# Altium footprint library Components.PcbLib: 10 footprints
Each footprint in its own frame and in the unit in brackets; x right, y up, seen from the top. Pads: shape width x height; smd on the part's side, far side on the other; paste and mask are expansions set on the pad; w line width, h text height; cw(c..) or ccw(c..) is an arc to the next point about the centre after c.
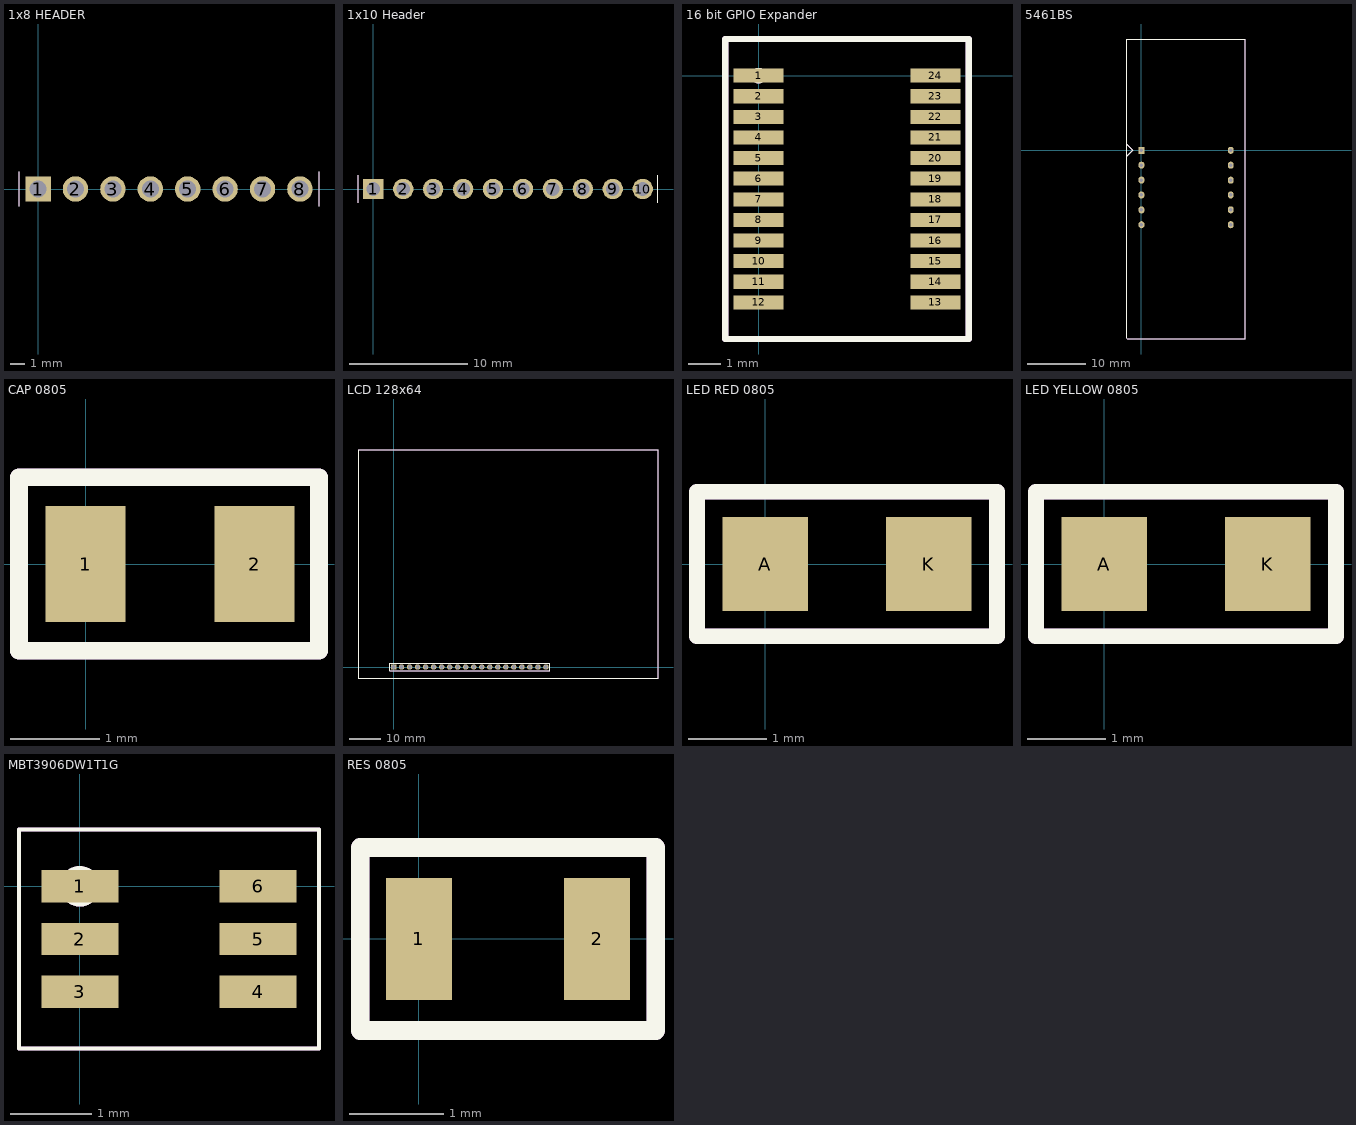
[diagram p0: the footprints below, top view; thin cyan lines are the x and y axes]

## 1x8 HEADER [mm]
pads (8):
  rect 1.725x1.725 hole 1.15: 1(0,0)
  round 1.725 hole 1.15: 2(2.54,0) 3(5.08,0) 4(7.62,0) 5(10.16,0) 6(12.7,0) 7(15.24,0) 8(17.78,0)
Top Overlay:
  circle w0.54: c0,0 r0.25
  lines w0.05: -1.295,-1.168 -1.295,1.168 ; 19.075,-1.168 19.075,-0.398 19.075,0.847 19.075,1.168
Mechanical 29 (Mech29):
  circle w0.54: c0,0 r0.25
  lines w0.05: -1.295,-1.168 -1.295,1.168 ; 19.075,-1.168 19.075,-0.398 19.075,0.847 19.075,1.168
  text "'.Designator'" at -1.4,-2.3 h1.2
3D body "10129378-908001BLF.stp": height 3.3, standoff -8.58, extent -1.27,-1.205 19.05,1.205

## 1x10 Header [mm]
pads (10):
  rect 1.725x1.725 hole 1.15: 1(0,0)
  round 1.725 hole 1.15: 2(2.54,0) 3(5.08,0) 4(7.62,0) 5(10.16,0) 6(12.7,0) 7(15.24,0) 8(17.78,0) 9(20.32,0) 10(22.86,0)
Top Overlay:
  circle w0.54: c0,0 r0.25
  region: 0,0
  lines w0.05: -1.295,-1.168 -1.295,1.168 ; 24.155,-1.168 24.155,1.168
Mechanical 29 (Mech29):
  circle w0.54: c0,0 r0.25
  region: 0,0
  lines w0.05: -1.295,-1.168 -1.295,1.168 ; 24.155,-1.168 24.155,1.168
  text "'.Designator'" at -1.52,-2.524 h1.2
3D body "10129378-910001BLF.stp": height 3.3, standoff -8.58, extent -1.27,-1.205 24.13,1.205

## 16 bit GPIO Expander [mm] "SOP64P602X175-24N"
pads (24):
  rect 1.55x0.435 smd: 1(0,0) 2(0,-0.634) 3(0,-1.27) 4(0,-1.904) 5(0,-2.54) 6(0,-3.174) 7(0,-3.81) 8(0,-4.444) 9(0,-5.08) 10(0,-5.714) 11(0,-6.35) 12(0,-6.984) 13(5.45,-6.984) 14(5.45,-6.35) 15(5.45,-5.714) 16(5.45,-5.08) 17(5.45,-4.444) 18(5.45,-3.81) 19(5.45,-3.174) 20(5.45,-2.54) 21(5.45,-1.904) 22(5.45,-1.27) 23(5.45,-0.634) 24(5.45,0)
Top Overlay:
  circle w0.254: c0,0 r0.112
  lines w0.2: -1.025,-8.112 -1.025,1.128 6.475,1.128 6.475,-8.112 -1.025,-8.112
Mechanical 29 (Mech29):
  circle w0.254: c0,0 r0.112
  lines w0.2: -1.025,-8.112 -1.025,1.128 6.475,1.128 6.475,-8.112 -1.025,-8.112
  text "'.Designator'" at 2.225,-3.706 h1.52
3D body "MAX7313AEG+.stp": height 1.75, standoff 0, extent -0.285,-7.817 5.735,0.833

## 5461BS [mm] "7 Segments Display"
pads (12):
  rect 1x1.2 hole 0.6: 1(0,0)
  oval 1x1.2 hole 0.6: 2(0,-2.54) 3(0,-5.08) 4(0,-7.62) 5(0,-10.16) 6(0,-12.7) 7(15.24,-12.7) 8(15.24,-10.16) 9(15.24,-7.62) 10(15.24,-5.08) 11(15.24,-2.54) 12(15.24,0)
Top Overlay:
  lines w0.2: -2.5,-32.1 -2.5,19 17.7,19 17.7,-32.2 -2.4,-32.2 ; -2.5,-1 -1.5,0 -2.5,1
Mechanical 29 (Mech29):
  lines w0.2: -2.5,-32.1 -2.5,19 17.7,19 17.7,-32.2 -2.4,-32.2 ; -2.5,-1 -1.5,0 -2.5,1
  text "'.Designator'" at 18.4,18.8 h1.2
3D body "5461BS.step": height 8.01, standoff -6.3, extent -1.9,-31.75 17.1,18.55

## CAP 0805 [mm]
pads (2):
  rect 0.9x1.3 smd: 1(0,0) 2(1.9,0)
Top Overlay:
  lines w0.2: -0.75,-0.975 2.625,-0.975 2.625,0.975 -0.75,0.975 -0.75,-0.975
Mechanical 29 (Mech29):
  lines w0.2: -0.75,-0.975 -0.75,0.975 2.625,0.975 2.625,-0.975 -0.75,-0.975
  text "'.Designator'" at 0.325,-0.375 h1.2
3D body "CAP-0805.STEP": height 1.01, standoff 0.01, extent -0.05,-0.625 1.95,0.625

## LCD 128x64 [mm] "GLCD"
pads (20):
  rect 1.725x1.725 hole 1.15: 1(0,0)
  round 1.725 hole 1.15: 2(2.54,0) 3(5.08,0) 4(7.62,0) 5(10.16,0) 6(12.7,0) 7(15.24,0) 8(17.78,0) 9(20.32,0) 10(22.86,0) 11(25.4,0) 12(27.94,0) 13(30.48,0) 14(33.02,0) 15(35.56,0) 16(38.1,0) 17(40.64,0) 18(43.18,0) 19(45.72,0) 20(48.26,0)
Top Overlay:
  circle w0.254: c0,0 r0.125
  lines w0.2: -1.275,1.205 49.53,1.205 49.53,-1.205 -1.27,-1.205 -1.27,1.205 ; -11.25,-3.5 83.75,-3.5 83.75,68.75 -11.25,68.75 -11.25,-3.5
Mechanical 29 (Mech29):
  circle w0.254: c0,0 r0.125
  lines w0.1: -1.27,-1.205 49.53,-1.205 49.53,1.205 -1.27,1.205 -1.27,-1.205
  lines w0.2: -11.25,-3.5 -11.25,68.75 83.75,68.75 83.75,-3.5 -11.25,-3.5
  text "GLCD" at -11.1,69.4 h1.2
3D body "Waveshare_LCD12864-ST.step": height 13.42, standoff -6.67, extent -10.254,-2.362 82.746,67.638

## LED RED 0805 [mm]
pads (2):
  rect 1.1x1.2 smd: A(0,0) K(2.1,0)
Top Overlay:
  circle w0.254: c0,0 r0.071
  lines w0.2: -0.875,-0.925 -0.875,0.925 2.975,0.925 2.975,-0.925 -0.875,-0.925
Mechanical 29 (Mech29):
  circle w0.254: c0,0 r0.071
  lines w0.2: -0.875,-0.925 2.975,-0.925 2.975,0.925 -0.875,0.925 -0.875,-0.925
  text "'.Designator'" at 0.575,-0.4 h1.2
3D body "RED LED-0805.STEP": height 0.81, standoff 0.01, extent 0,-0.675 2.1,0.675

## LED YELLOW 0805 [mm]
pads (2):
  rect 1.1x1.2 smd: A(0,0) K(2.1,0)
Top Overlay:
  circle w0.254: c0,0 r0.071
  lines w0.2: -0.875,-0.925 2.975,-0.925 2.975,0.925 -0.875,0.925 -0.875,-0.925
Mechanical 29 (Mech29):
  circle w0.254: c0,0 r0.071
  lines w0.2: -0.875,-0.925 -0.875,0.925 2.975,0.925 2.975,-0.925 -0.875,-0.925
  text "'.Designator'" at 0.575,-0.4 h1.2
3D body "YELLOW LED-0805.STEP": height 0.81, standoff 0.01, extent 0,-0.675 2.1,0.675

## MBT3906DW1T1G [mm] "SOT65P210X110-6N"
pads (6):
  rect 0.95x0.4 smd: 1(0,0) 2(0,-0.65) 3(0,-1.3) 4(2.2,-1.3) 5(2.2,-0.65) 6(2.2,0)
Top Overlay:
  circle w0.25: c0,0 r0.125
  lines w0.05: -0.75,-2 2.95,-2 2.95,0.7 -0.75,0.7 -0.75,-2
Mechanical 29 (Mech29):
  circle w0.25: c0,0 r0.125
  lines w0.05: -0.75,-2 -0.75,0.7 2.95,0.7 2.95,-2 -0.75,-2
  text "'.Designator'" at 0.5,-1.025 h1.2
3D body "NUP4202W1T2G.stp": height 1.1, standoff 0, extent 0.05,-1.65 2.15,0.35

## RES 0805 [mm]
pads (2):
  rect 0.7x1.3 smd: 1(0,0) 2(1.9,0)
Top Overlay:
  lines w0.2: -0.625,-0.975 -0.625,0.975 ; -0.625,-0.975 2.525,-0.975 -0.625,-0.975 ; -0.625,-0.975 -0.625,0.975 ; -0.625,0.975 2.525,0.975 -0.625,0.975 ; 2.525,-0.95 2.525,0.95 2.525,-0.95
Mechanical 29 (Mech29):
  lines w0.2: -0.625,-0.975 -0.625,0.975 ; -0.625,-0.975 2.525,-0.975 -0.625,-0.975 ; -0.625,-0.975 -0.625,0.975 ; -0.625,0.975 2.525,0.975 -0.625,0.975 ; 2.525,-0.95 2.525,0.95 2.525,-0.95
  text "'.Designator'" at 0.4,-0.35 h1.2
3D body "RES-0805.STEP": height 0.77, standoff 0.01, extent -0.2,-0.675 2.1,0.675